# EAGLE library part DIP-GAS-MQ-5(6P-D19MM) (library OPL-sensor)
314100000
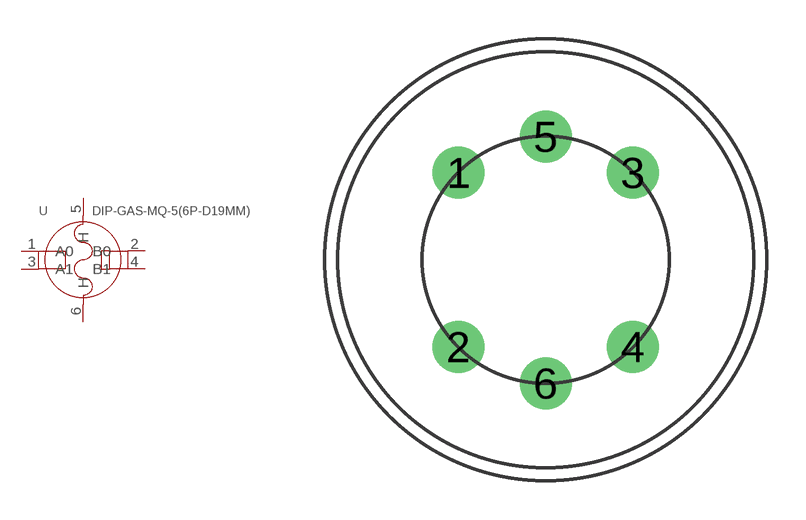
[diagram p4: symbol with the pads of SNR6-D19.0MM; footprint SNR6-D19.0MM]

Designator prefix U

## DIP-GAS-MQ-5(6P-D19MM)  [SNR6-D19.0MM]
1  A0
2  B0
3  A1
4  B1
5  H
6  H

## Footprint SNR6-D19.0MM (pad centres in mm)
drill 1.3 pad 2: 1 -3.355,3.355; 2 -3.355,-3.355; 3 3.355,3.355; 4 3.355,-3.355; 5 0,4.75; 6 0,-4.75